# EAGLE library part BTS50080-1TMB (library mosfet-infineon)
BTS50080-1TMB Smart High-Side Power Switch, PROFET One Channel INF-PG-TO220-7
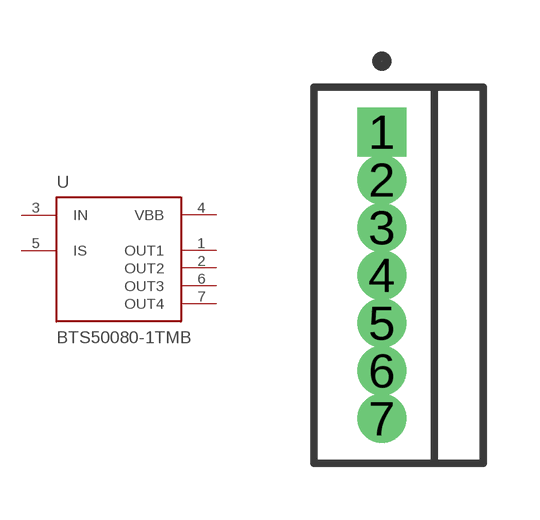
[diagram p37: symbol with the pads of INF-PG-TO220-7; footprint INF-PG-TO220-7]

Designator prefix U

## BTS50080-1TMB  [INF-PG-TO220-7]
1  OUT1  out
2  OUT2  out
3  IN  in
4  VBB  pwr
5  IS  out
6  OUT3  out
7  OUT4  out

## Footprint INF-PG-TO220-7 (pad centres in mm)
Original name INF-PG-TO220-7
drill 0.8 pad 1.1 square: 1 0,3.81
drill 0.8 pad 1.1: 2 0,2.54; 3 0,1.27; 4 0,0; 5 0,-1.27; 6 0,-2.54; 7 0,-3.81